# Altium schematic symbol library B105digital_ic.SchLib: 36 symbols (part 3 of 4)
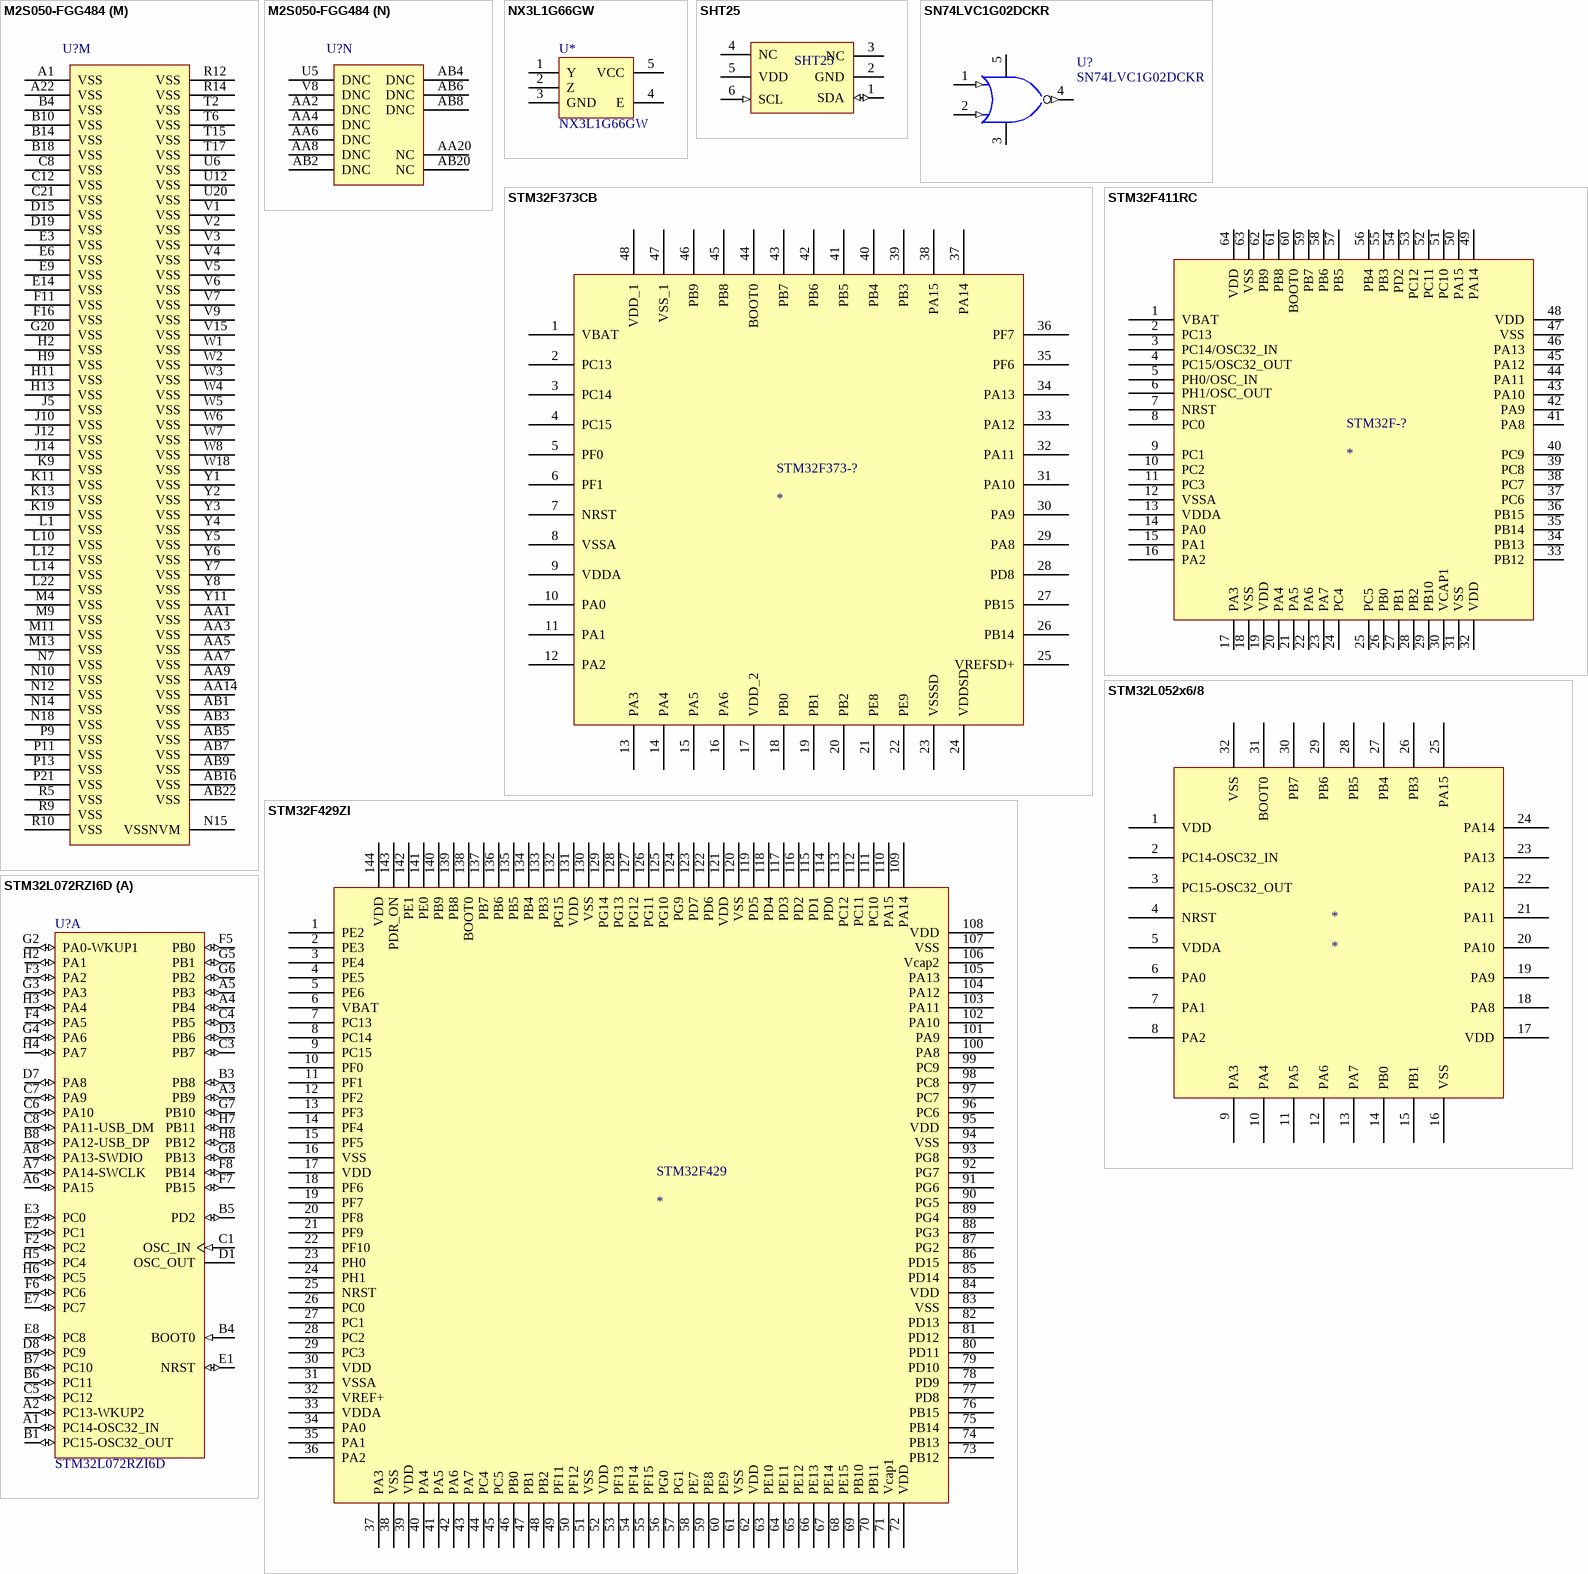
[diagram p105: symbols M2S050-FGG484 to STM32L072RZI6D]

# Altium schematic symbol library B105digital_ic.SchLib: 36 symbols (continued)
part L pins: AA19 VDDI5 (power) "VDDI port 5, bank 5 power", AB12 VDDI5 (power) "VDDI port 5, bank 5 power", B8 VDDI0 (power) "VDDI port 0, bank 0 power", B12 VDDI0 (power) "VDDI port 0, bank 0 power", B16 VDDI0 (power) "VDDI port 0, bank 0 power", B20 VDDI0 (power) "VDDI port 0, bank 0 power", C2 VDDI8 (power) "VDDI port 8, bank 8 power", C6 VDDI0 (power) "VDDI port 0, bank 0 power", C10 VDDI0 (power) "VDDI port 0, bank 0 power", C14 VDDI0 (power) "VDDI port 0, bank 0 power", D17 VDDI0 (power) "VDDI port 0, bank 0 power", E11 VDDI0 (power) "VDDI port 0, bank 0 power", E20 VDDI1 (power) "VDDI port 1, bank 1 power", F1 VDDI8 (power) "VDDI port 8, bank 8 power", F7 VDDI0 (power) "VDDI port 0, bank 0 power", F9 VDDI0 (power) "VDDI port 0, bank 0 power", F13 VDDI0 (power) "VDDI port 0, bank 0 power", F22 VDDI1 (power) "VDDI port 1, bank 1 power", G4 VDDI8 (power) "VDDI port 8, bank 8 power", H12 VDDI0 (power) "VDDI port 0, bank 0 power", H14 VDDI0 (power) "VDDI port 0, bank 0 power", H18 VDDI1 (power) "VDDI port 1, bank 1 power", J7 VDDI8 (power) "VDDI port 8, bank 8 power", J21 VDDI1 (power) "VDDI port 1, bank 1 power", K3 VDDI7 (power) "VDDI port 7, bank 7 power", L6 VDDI7 (power) "VDDI port 7, bank 7 power", L17 VDDI3 (power) "VDDI port 3, bank 3 power", M20 VDDI3 (power) "VDDI port 3, bank 3 power", N2 VDDI7 (power) "VDDI port 7, bank 7 power", P5 VDDI7 (power) "VDDI port 7, bank 7 power", R19 VDDI3 (power) "VDDI port 3, bank 3 power", T14 VDDI5 (power) "VDDI port 5, bank 5 power", T22 VDDI3 (power) "VDDI port 3, bank 3 power", U2 VDDI6 (power) "VDDI port 6, bank 6 power", V10 VDDI5 (power) "VDDI port 5, bank 5 power", W13 VDDI5 (power) "VDDI port 5, bank 5 power", W21 VDDI4 (power) "VDDI port 4, bank 4 power", Y16 VDDI5 (power) "VDDI port 5, bank 5 power"